# EAGLE library part 615016245421 (library Eagle_WR-MJ (rev23b))
WR-MJ Modular Jack Horizontal Shielded Dual Stacked w. LED and EMI Panel Finger 8P8C Tab Up&Down KIND PROPERTIES Quality Class:500 Mating cycles LED:yellow-green General Information Operating Temperature:-40 up to +85 °C Compliance:RoHS Electrical Properties IR 1:1.5 A Working Voltage:120 V (AC) Withstanding Voltage:1000 V (AC) Contact Resistance:20 mΩ RISO:500 MΩ Material Properties Insulator Material:PBT Insulator Flammability Rating:UL94 V-0 Color:Black Contact Material:Copper Alloy Contact Plating:Selective Gold Contact Type:Stamped Shielding Material:Bronze Shielding Plating:Nickel Packaging Properties Packaging:Tray <https://www.we-online.com/catalog/media/o33143v209%20Family_WR-MJ_615016245421.jpg> Details see: https://www.we-online.com/catalog/en/MJ_HORIZONTAL_SHIELDED_DUAL_STACKED_PORT_W_LED_AND_EMI_FINGER_8P8C_TAB_UP_DOWN/ Updated by Ella Wu 2021-12-08 2022(C) Würth Elektronik
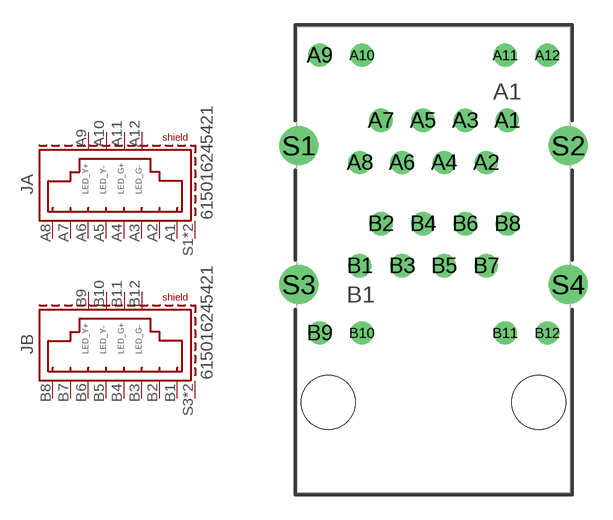
[diagram p12: symbol with the pads of 615016245421; footprint 615016245421]

Designator prefix J; gates A=8P8C_S_LEDYG B=8P8C_S_LEDYG

## 615016245421 (DATASHEET-URL: https://www.we-online.com/redexpert/spec/615016245421?ae; LED: yellow-green; MOUNT: THT; PART-NUMBER: 615016245421; TYPE: Horizontal; VALUE: 615016245421; XPXC: 8P8C)  [615016245421]
A1  A:1  pas
A2  A:2  pas
A3  A:3  pas
A4  A:4  pas
A5  A:5  pas
A6  A:6  pas
A7  A:7  pas
A8  A:8  pas
A9  A:Y+  pas
A10  A:Y-  pas
A11  A:G+  pas
A12  A:G-  pas
B1  B:1  pas
B2  B:2  pas
B3  B:3  pas
B4  B:4  pas
B5  B:5  pas
B6  B:6  pas
B7  B:7  pas
B8  B:8  pas
B9  B:Y+  pas
B10  B:Y-  pas
B11  B:G+  pas
B12  B:G-  pas
S1  A:SHIELD  pas
S2  A:SHIELD  pas
S3  B:SHIELD  pas
S4  B:SHIELD  pas

## Footprint 615016245421 (pad centres in mm)
WR-MJ Modular Jack Horizontal Shielded Dual Stacked w. LED and EMI Panel Finger 8P8C Tab Up&Down,16 Pins
drill 0.89: A1 4.445,8.405; A2 3.175,5.865; A3 1.905,8.405; A4 0.635,5.865; A5 -0.635,8.405; A6 -1.905,5.865; A7 -3.175,8.405; A8 -4.445,5.865; A9 -6.865,12.335; A10 -4.32,12.335; A11 4.32,12.335; A12 6.865,12.335; B1 -4.445,-0.365; B2 -3.175,2.175; B3 -1.905,-0.365; B4 -0.635,2.175; B5 0.635,-0.365; B6 1.905,2.175; B7 3.175,-0.365; B8 4.445,2.175; B9 -6.865,-4.425; B10 -4.32,-4.425; B11 4.32,-4.425; B12 6.865,-4.425
drill 1.57: S1 -8.12,6.875; S2 8.12,6.875; S3 -8.12,-1.505; S4 8.12,-1.505
hole 3.25 at -6.345,-8.615
hole 3.25 at 6.345,-8.615